# Altium footprint library SOT95P240X120-3N.PcbLib: 1 footprints
Each footprint in its own frame and in the unit in brackets; x right, y up, seen from the top. Pads: shape width x height; smd on the part's side, far side on the other; paste and mask are expansions set on the pad; w line width, h text height; cw(c..) or ccw(c..) is an arc to the next point about the centre after c.
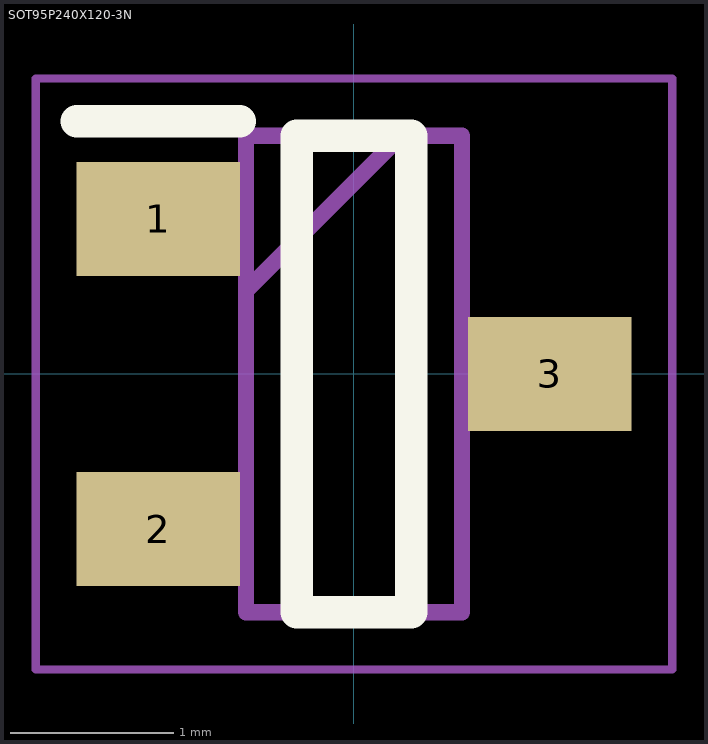
[diagram p0: the footprint, top view; thin cyan lines are the x and y axes]

## SOT95P240X120-3N [mm]
pads (3):
  rect 1x0.7 smd: 1(-1.2,0.95) 2(-1.2,-0.95) 3(1.2,0)
Top Overlay:
  lines w0.2: -1.7,1.55 -0.7,1.55 ; -0.35,-1.46 0.35,-1.46 0.35,1.46 -0.35,1.46 -0.35,-1.46
Mechanical 15:
  lines w0.1: -0.662,0.51 0.288,1.46 ; -0.662,-1.46 0.662,-1.46 0.662,1.46 -0.662,1.46 -0.662,-1.46
Mechanical 20:
  lines w0.05: -1.95,-1.81 1.95,-1.81 1.95,1.81 -1.95,1.81 -1.95,-1.81